# Altium footprint library Mounting Holes.PcbLib: 4 footprints
Each footprint in its own frame and in the unit in brackets; x right, y up, seen from the top. Pads: shape width x height; smd on the part's side, far side on the other; paste and mask are expansions set on the pad; w line width, h text height; cw(c..) or ccw(c..) is an arc to the next point about the centre after c.
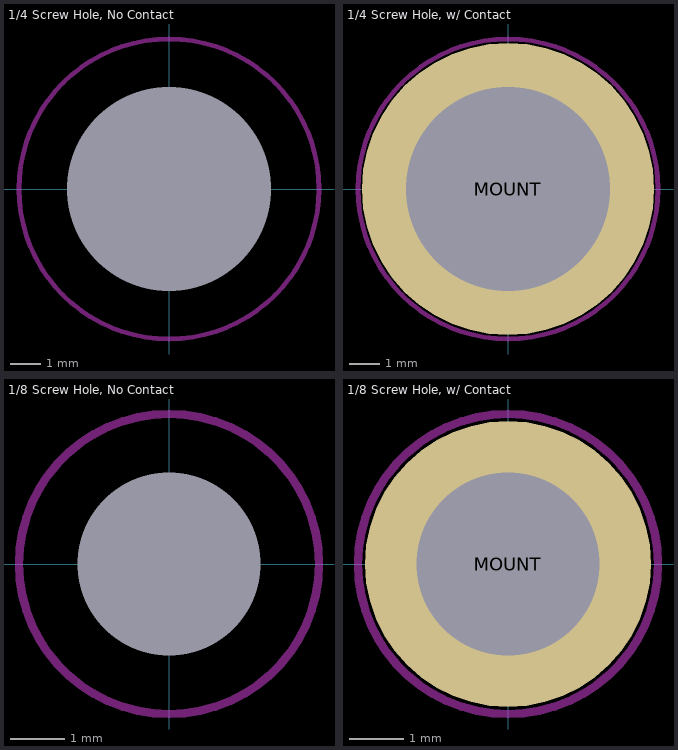
[diagram p0: the footprints below, top view; thin cyan lines are the x and y axes]

## 1/4 Screw Hole, No Contact [mil] "1/4 Screw Hole, No Contact"
height 0.25
pads (1):
  round 0 hole 262: MOUNT(0,0)
Keep-Out Layer:
  circle w6: c0,0 r193

## 1/4 Screw Hole, w/ Contact [mil] "1/4 Screw Hole, w/ Contact"
height 0.25
pads (1):
  round 376 hole 262: MOUNT(0,0)
Keep-Out Layer:
  circle w6: c0,0 r193

## 1/8 Screw Hole, No Contact [mil] "1/8 Screw Hole, No Contact"
height 0.12
pads (1):
  round 0 hole 132: MOUNT(0,0)
Keep-Out Layer:
  circle w6: c0,0 r108

## 1/8 Screw Hole, w/ Contact [mil] "1/8 Screw Hole, w/ Contact"
height 0.12
pads (1):
  round 206 hole 132: MOUNT(0,0)
Keep-Out Layer:
  circle w6: c0,0 r108